# Altium footprint library SPV0142LR5H-1.PcbLib: 1 footprints
Each footprint in its own frame and in the unit in brackets; x right, y up, seen from the top. Pads: shape width x height; smd on the part's side, far side on the other; paste and mask are expansions set on the pad; w line width, h text height; cw(c..) or ccw(c..) is an arc to the next point about the centre after c.
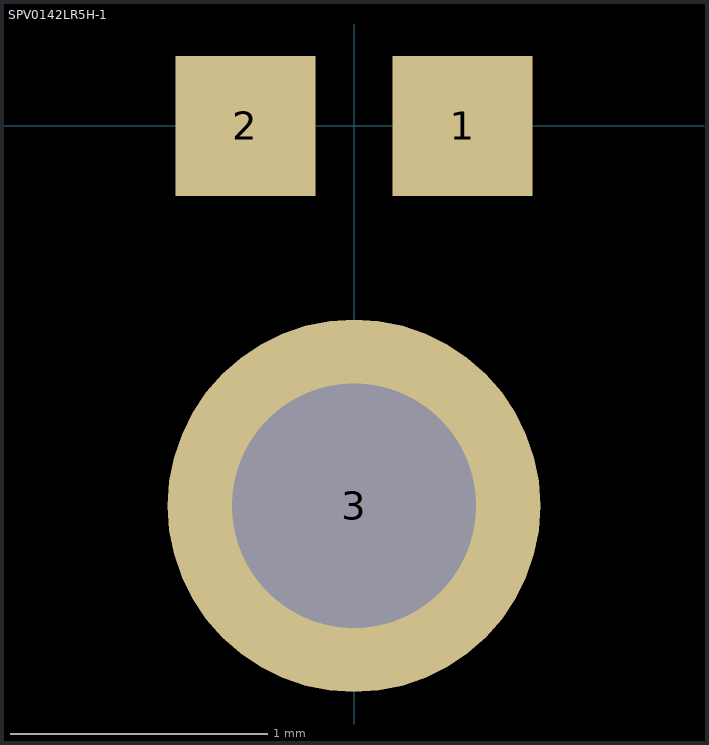
[diagram p0: the footprint, top view; thin cyan lines are the x and y axes]

## SPV0142LR5H-1 [mm]
pads (3):
  rect 0.545x0.545 / inner round 0 / far side round 0 all layers, no hole: 1(0.423,0) 2(-0.423,0)
  round 1.45 hole 0.95: 3(0,-1.478)